# Altium footprint library Res_Stackpole_RMCF0603FT220R_eec_IPC_B.PcbLib: 1 footprints
Each footprint in its own frame and in the unit in brackets; x right, y up, seen from the top. Pads: shape width x height; smd on the part's side, far side on the other; paste and mask are expansions set on the pad; w line width, h text height; cw(c..) or ccw(c..) is an arc to the next point about the centre after c.
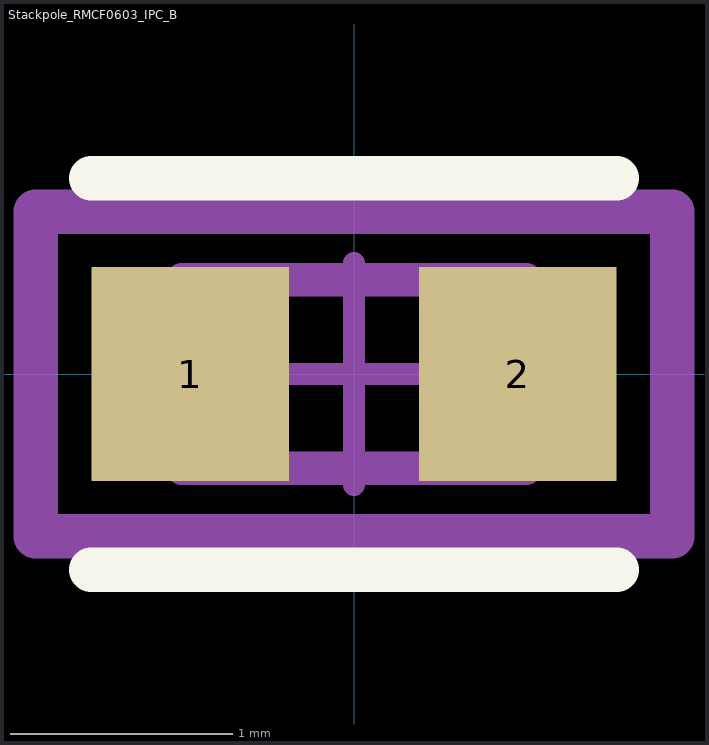
[diagram p0: the footprint, top view; thin cyan lines are the x and y axes]

## Stackpole_RMCF0603_IPC_B [mm]
pads (2):
  rect 0.891x0.962 smd paste+0 mask+0: 1(-0.737,0) 2(0.738,0)
Top Overlay:
  lines w0.2: -1.183,-0.881 1.183,-0.881 ; -1.183,0.881 1.183,0.881
Mechanical 10:
  lines w0.2: -1.433,-0.731 1.433,-0.731 1.433,0.731 -1.433,0.731 -1.433,-0.731
  text ".Designator" at 0,0 h1
Mechanical 12:
  lines w0.15: -0.775,-0.425 0.775,-0.425 0.775,0.425 -0.775,0.425 -0.775,-0.425
Mechanical 15:
  lines w0.1: -0.5,0 0.5,0 ; 0,-0.5 0,0.5
  lines w0.2: -1.433,-0.731 1.433,-0.731 1.433,0.731 -1.433,0.731 -1.433,-0.731